# Altium schematic symbol library V2_wearable.SCHLIB: 77 symbols
Pins are listed as number, name and electrical type; pins without a type are passive.

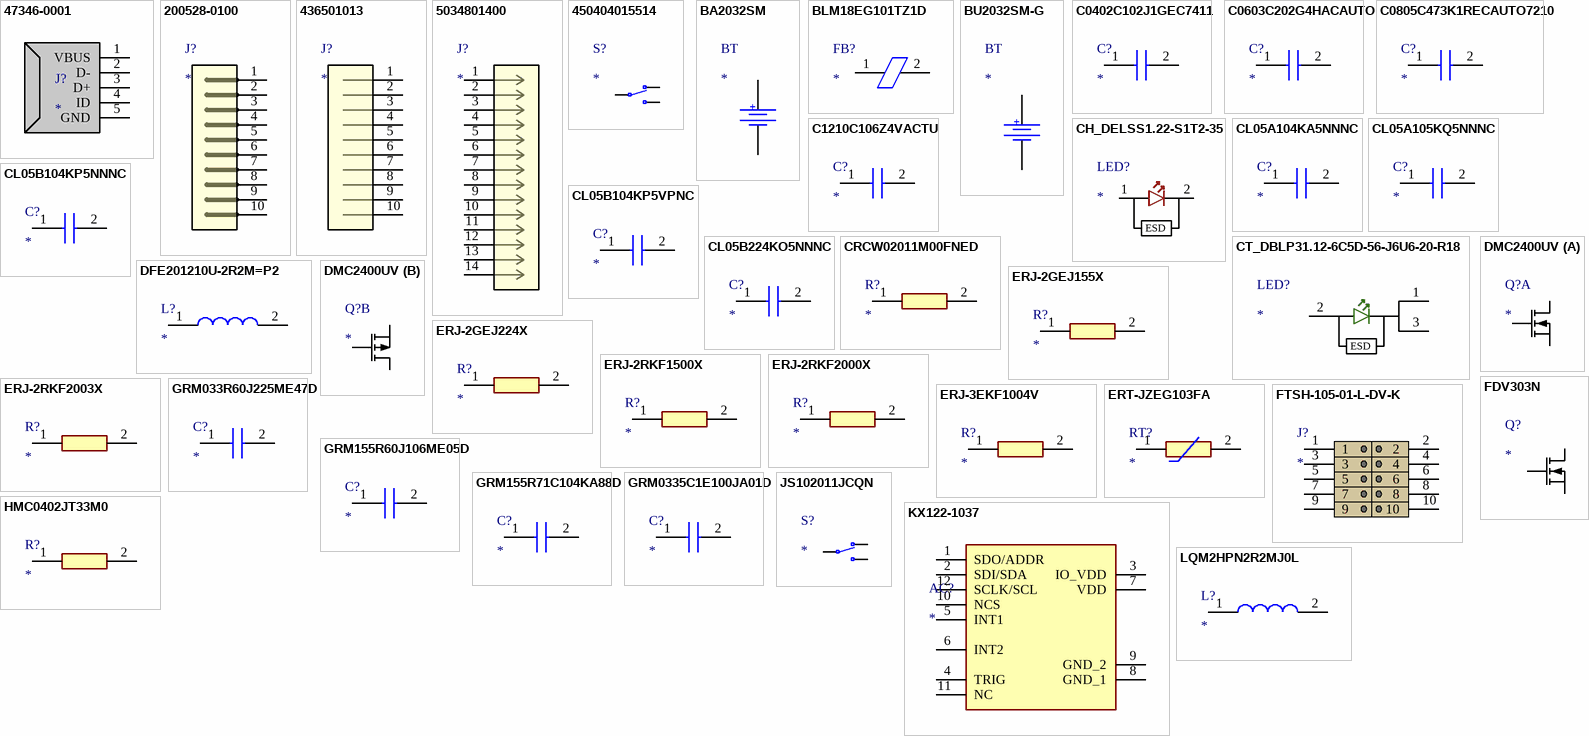
[diagram p0: symbols 47346-0001 to LQM2HPN2R2MJ0L]

## 47346-0001
designator J?
Connector; Manufacturer_Name: Molex; Manufacturer_Part_Number: 47346-0001; Datasheet Link: http://www.molex.com/pdm_docs/sd/473460001_sd.pdf; Mouser Part Number: 538-47346-0001; Mouser Price/Stock: https://www.mouser.co.uk/ProductDetail/Molex/47346-0001?qs=c2CV6XM0DweJBWaSeyWeCw%3D%3D
footprint 47346-0001
pins: 1 VBUS, 2 D-, 3 D+, 4 ID, 5 GND

## 200528-0100
designator J?
Connector; Manufacturer_Name: Molex; Manufacturer_Part_Number: 200528-0100; Datasheet Link: https://www.molex.com/pdm_docs/sd/2005280100_sd.pdf; Height: 2.1mm; Mouser Part Number: 538-200528-0100; Mouser Price/Stock: https://www.mouser.co.uk/ProductDetail/Molex/200528-0100?qs=0lSvoLzn4L%2F78iVrqdBtRg%3D%3D
footprint 2005280100
pins: 1, 2, 3, 4, 5, 6, 7, 8, 9, 10

## 436501013
designator J?
Connector; Manufacturer_Name: Molex; Manufacturer_Part_Number: 436501013; Datasheet Link: https://www.molex.com/pdm_docs/sd/436500212_sd.pdf; Height: 5.57mm
footprint 4365010YY_121314
pins: 1, 2, 3, 4, 5, 6, 7, 8, 9, 10

## 5034801400
designator J?
No Description Available; Mfr_Name: Molex Connector Corporation; RefDes: RefDes; Type: Type
footprint CON_5034801400_MOL
pins: 1, 2, 3, 4, 5, 6, 7, 8, 9, 10, 11, 12, 13, 14

## 450404015514
designator S?
Switch; Manufacturer_Name: Wurth Elektronik; Manufacturer_Part_Number: 450404015514; Datasheet Link: https://katalog.we-online.de/em/datasheet/450404015514.pdf; Height: 1.4mm; Mouser Part Number: 710-450404015514; Mouser Price/Stock: https://www.mouser.co.uk/ProductDetail/Wurth-Elektronik/450404015514?qs=sPbYRqrBIVk21%2FxsES2IZA%3D%3D
footprint 450404015514
pins: 1 N.O-1, 2 COM-1, 3 N.C-1

## BA2032SM
designator BT
BATTERY HOLDER COIN 20MM SMD; MP: BA2032SM; MF: MPD; SnapEDA_Link: https://www.snapeda.com/parts/BA2032SM/Memory%20Protection%20Devices/view-part/4219674/?ref=snap; Price: None; Package: None; Value: *; Availability: Unavailable
footprint BAT_BA2032SM
pins: NEG, POS
text: +

## BLM18EG101TZ1D
designator FB?
Ferrite Bead; Manufacturer_Name: Murata Electronics; Manufacturer_Part_Number: BLM18EG101TZ1D; Datasheet Link: http://www.murata.com/~/media/webrenewal/support/library/catalog/products/emc/emifil/c31e.ashx?la=en-gb; Height: 0.75mm; Mouser Part Number: 81-BLM18EG101TZ1D; Mouser Price/Stock: https://www.mouser.co.uk/ProductDetail/Murata-Electronics/BLM18EG101TZ1D?qs=lEfY3O89Aql3C2AEBXMxiA%3D%3D
footprint BLM18EG101TH1D
pins: 1, 2

## BU2032SM-G
designator BT
BATTERY HOLDER COIN 20MM SMD; MP: BU2032SM-G; MF: MPD; Package: None; Availability: Unavailable; Price: None; SnapEDA_Link: https://www.snapeda.com/parts/BU2032SM-G/Memory%20Protection%20Devices/view-part/4219599/?ref=snap; Value: *
footprint BAT_BU2032SM-G
pins: NEG, POS
text: +

## C0402C102J1GEC7411
designator C?
Capacitor; Manufacturer_Name: KEMET; Manufacturer_Part_Number: C0402C102J1GEC7411; Datasheet Link: https://content.kemet.com/datasheets/KEM_C1091_C0G_ESD.pdf; Height: 0.55mm; Mouser Part Number: 80-C0402C102J1GECLR; Mouser Price/Stock: https://www.mouser.co.uk/ProductDetail/KEMET/C0402C102J1GEC7411?qs=55YtniHzbhDbMp4X17Pi5A%3D%3D
footprint C0402
pins: 1, 2

## C0603C202G4HACAUTO
designator C?
Capacitor; Manufacturer_Name: KEMET; Manufacturer_Part_Number: C0603C202G4HACAUTO; Datasheet Link: https://content.kemet.com/datasheets/KEM_C1007_X8R_ULTRA_150C_SMD.pdf; Height: 0.87mm
footprint C0603
pins: 1, 2

## C0805C473K1RECAUTO7210
designator C?
Capacitor; Manufacturer_Name: KEMET; Manufacturer_Part_Number: C0805C473K1RECAUTO7210; Datasheet Link: https://connect.kemet.com:7667/gateway/IntelliData-ComponentDocumentation/1.0/download/specsheet/C0805C473K1RECAUTO7210; Height: 1.4mm; Mouser Part Number: 80-C0805C473K1REAULR; Mouser Price/Stock: https://www.mouser.com/Search/Refine.aspx?Keyword=80-C0805C473K1REAULR
footprint CAPC2012X140N
pins: 1, 2

## C1210C106Z4VACTU
designator C?
Capacitor; Manufacturer_Name: KEMET; Manufacturer_Part_Number: C1210C106Z4VACTU; Datasheet Link: https://content.kemet.com/datasheets/KEM_C1005_Y5V_SMD.pdf; Mouser Part Number: 80-C1210C106Z4V; Mouser Price/Stock: https://www.mouser.co.uk/ProductDetail/KEMET/C1210C106Z4VACTU?qs=mv3KgORg%2FP46M9Lyxvcz2A%3D%3D
footprint C1210
pins: 1, 2

## CH_DELSS1.22-S1T2-35
designator LED?
LED; Manufacturer_Name: ams OSRAM; Manufacturer_Part_Number: CH DELSS1.22-S1T2-35; Datasheet Link: https://dammedia.osram.info/media/resource/hires/osram-dam-5970299/CH DELSS1.22_EN.pdf; Height: 0.6mm; Mouser Part Number: 720-CHDELSS122A1192; Mouser Price/Stock: https://www.mouser.co.uk/ProductDetail/OSRAM-Opto-Semiconductors/CH-DELSS122-S1T2-35?qs=%252BEew9%252B0nqrCNoQzrwoCJpA%3D%3D; Arrow Part Number: CH DELSS1.22-S1T2-35; Arrow Price/Stock: https://www.arrow.com/en/products/ch-delss1.22-s1t2-35/osram-opto-semiconductors
footprint CHDELSS122S1T235
pins: 1 A, 1 C, 2 K, 2 A
text: ESD

## CL05A104KA5NNNC
designator C?
Capacitor; Manufacturer_Name: SAMSUNG; Manufacturer_Part_Number: CL05A104KA5NNNC; Datasheet Link: https://datasheet.datasheetarchive.com/originals/distributors/Datasheets-DGA10/2409293.pdf; Height: 0.55mm; Mouser Part Number: 187-CL05A104KA5NNNC; Mouser Price/Stock: https://www.mouser.co.uk/ProductDetail/Samsung-Electro-Mechanics/CL05A104KA5NNNC?qs=X6jEic%2FHinDlkqz9npJeOg%3D%3D; Arrow Part Number: CL05A104KA5NNNC; Arrow Price/Stock: https://www.arrow.com/en/products/cl05a104ka5nnnc/samsung-electro-mechanics?region=europe
footprint CAPC1005X55N
pins: 1, 2

## CL05A105KQ5NNNC
designator C?
Capacitor; Manufacturer_Name: SAMSUNG; Manufacturer_Part_Number: CL05A105KQ5NNNC; Datasheet Link: https://altium.componentsearchengine.com/Datasheets/2/CL05A105KQ5NNNC.pdf; Height: 0.55mm; Mouser Part Number: 187-CL05A105KQ5NNNC; Mouser Price/Stock: https://www.mouser.co.uk/ProductDetail/Samsung-Electro-Mechanics/CL05A105KQ5NNNC?qs=hqM3L16%252BxlcZ9I8tt8QWVg%3D%3D; Arrow Part Number: CL05A105KQ5NNNC; Arrow Price/Stock: https://www.arrow.com/en/products/cl05a105kq5nnnc/samsung-electro-mechanics?region=europe
footprint CAPC1005X55N
pins: 1, 2

## CL05B104KP5NNNC
designator C?
Capacitor; Manufacturer_Name: SAMSUNG; Manufacturer_Part_Number: CL05B104KP5NNNC; Datasheet Link: http://product.samsungsem.com/mlcc/CL05B104KP5NNN.do; Height: 0.55mm; Mouser Part Number: 187-CL05B104KP5NNNC; Mouser Price/Stock: https://www.mouser.co.uk/ProductDetail/Samsung-Electro-Mechanics/CL05B104KP5NNNC?qs=349EhDEZ59qDkVTTBSSSxw%3D%3D; Arrow Part Number: CL05B104KP5NNNC; Arrow Price/Stock: https://www.arrow.com/en/products/cl05b104kp5nnnc/samsung-electro-mechanics?region=nac
footprint CAPC1005X55N
pins: 1, 2

## CL05B104KP5VPNC
designator C?
Capacitor; Manufacturer_Name: SAMSUNG; Manufacturer_Part_Number: CL05B104KP5VPNC; Datasheet Link: https://product.samsungsem.com/mlcc/CL05B104KP5VPN.do; Height: 0.55mm; Mouser Part Number: 187-CL05B104KP5VPNC; Mouser Price/Stock: https://www.mouser.co.uk/ProductDetail/Samsung-Electro-Mechanics/CL05B104KP5VPNC?qs=gqBM4hNBiUXTv%252BkFO9q2pQ%3D%3D
footprint CAPC1005X55N
pins: 1, 2

## CL05B224KO5NNNC
designator C?
Capacitor; Manufacturer_Name: SAMSUNG; Manufacturer_Part_Number: CL05B224KO5NNNC; Datasheet Link: https://media.digikey.com/pdf/Data%20Sheets/Samsung%20PDFs/CL05B224KO5NNNC_Spec.pdf; Height: 0.55mm; Mouser Part Number: 187-CL05B224KO5NNNC; Mouser Price/Stock: https://www.mouser.co.uk/ProductDetail/Samsung-Electro-Mechanics/CL05B224KO5NNNC?qs=X6jEic%2FHinCN6V6mK7LtLg%3D%3D; Arrow Part Number: CL05B224KO5NNNC; Arrow Price/Stock: https://www.arrow.com/en/products/cl05b224ko5nnnc/samsung-electro-mechanics
footprint CAPC1005X55N
pins: 1, 2

## CRCW02011M00FNED
designator R?
Resistor; Manufacturer_Name: Vishay; Manufacturer_Part_Number: CRCW02011M00FNED; Datasheet Link: http://www.vishay.com/docs/20035/dcrcwe3.pdf; Height: 0.28mm; Mouser Part Number: 71-CRCW02011M00FNED; Mouser Price/Stock: https://www.mouser.com/Search/Refine.aspx?Keyword=71-CRCW02011M00FNED; Arrow Part Number: CRCW02011M00FNED; Arrow Price/Stock: https://www.arrow.com/en/products/crcw02011m00fned/vishay
footprint RESC0603X28N
pins: 1, 2

## CT_DBLP31.12-6C5D-56-J6U6-20-R18
designator LED?
LED; Manufacturer_Name: ams OSRAM; Manufacturer_Part_Number: CT DBLP31.12-6C5D-56-J6U6-20-R18; Datasheet Link: https://www.mouser.com/catalog/specsheets/Osram-03-25-2019-CT%20DBLP31.12_EN.pdf; Mouser Part Number: 720-CTDBLP31A6091; Mouser Price/Stock: https://www.mouser.co.uk/ProductDetail/OSRAM-Opto-Semiconductors/CT-DBLP3112-6C5D-56-J6U6-20-R18?qs=vLWxofP3U2xgbqKYEOstuw%3D%3D
footprint CTDBLP31126C5D56J6U620R18
pins: 1 K_1, 1 C, 2 A, 2 A, 3 K_2
text: ESD

## DFE201210U-2R2M=P2
designator L?
Inductor; Manufacturer_Name: Murata Electronics; Manufacturer_Part_Number: DFE201210U-2R2M=P2; Datasheet Link: https://psearch.en.murata.com/inductor/product/DFE201210U-2R2M%23.html; Height: 1mm; Mouser Part Number: 81-DFE201210U-2R2MP2; Mouser Price/Stock: https://www.mouser.co.uk/ProductDetail/Murata-Electronics/DFE201210U-2R2M%3dP2?qs=AQlKX63v8Rt%252B2GxwUyA5Fw%3D%3D; Arrow Part Number: DFE201210U-2R2M=P2; Arrow Price/Stock: https://www.arrow.com/en/products/dfe201210u-2r2mp2/murata-manufacturing?region=nac
footprint DFE201210S1R0MP2
pins: 1, 2

## DMC2400UV
designator Q?
Transistor; Manufacturer_Name: Diodes Incorporated; Manufacturer_Part_Number: DMC2400UV; Datasheet Link: https://www.diodes.com/assets/Datasheets/DMC2400UV.pdf; Height: 0.6mm; Mouser Part Number: N/A; Mouser Price/Stock: https://www.mouser.co.uk/ProductDetail/Diodes-Incorporated/DMC2400UV?qs=Wj%2FVkw3K%252BMA7RIsKQCzONw%3D%3D
footprint SOTFL50P162X60-6N
part A pins: 1 S1, 2 G1, 6 D1
part B pins: 3 D2, 4 S2, 5 G2

## ERJ-2GEJ155X
designator R?
Resistor; Manufacturer_Name: Panasonic; Manufacturer_Part_Number: ERJ-2GEJ155X; Datasheet Link: https://datasheet.datasheetarchive.com/originals/distributors/DKDS40/DSANUWW0010593.pdf; Height: 0.4mm; Mouser Part Number: 667-ERJ-2GEJ155X; Mouser Price/Stock: https://www.mouser.co.uk/ProductDetail/Panasonic/ERJ-2GEJ155X?qs=MVjVSMjNRMoBrgcCxtyHNA%3D%3D
footprint ERJ2RKD1004X
pins: 1, 2

## ERJ-2GEJ224X
designator R?
Resistor; Manufacturer_Name: Panasonic; Manufacturer_Part_Number: ERJ-2GEJ224X; Datasheet Link: https://datasheet.datasheetarchive.com/originals/distributors/DKDS40/DSANUWW0010623.pdf; Height: 0.4mm; Mouser Part Number: 667-ERJ-2GEJ224X; Mouser Price/Stock: https://www.mouser.co.uk/ProductDetail/Panasonic/ERJ-2GEJ224X?qs=H7k1u0Mp9JQ0o1uy9bJkFg%3D%3D; Arrow Part Number: ERJ-2GEJ224X; Arrow Price/Stock: https://www.arrow.com/en/products/erj2gej224x/panasonic?region=nac
footprint ERJ2RKD1004X
pins: 1, 2

## ERJ-2RKF1500X
designator R?
Resistor; Manufacturer_Name: Panasonic; Manufacturer_Part_Number: ERJ-2RKF1500X; Datasheet Link: https://industrial.panasonic.com/cdbs/www-data/pdf/RDA0000/AOA0000C86.pdf; Height: 0.4mm; Mouser Part Number: 667-ERJ-2RKF1500X; Mouser Price/Stock: https://www.mouser.co.uk/ProductDetail/Panasonic/ERJ-2RKF1500X?qs=MVjVSMjNRMocymBqQ7AAtQ%3D%3D; Arrow Part Number: ERJ-2RKF1500X; Arrow Price/Stock: https://www.arrow.com/en/products/erj-2rkf1500x/panasonic?region=nac
footprint ERJ2RKD1004X
pins: 1, 2

## ERJ-2RKF2000X
designator R?
Resistor; Manufacturer_Name: Panasonic; Manufacturer_Part_Number: ERJ-2RKF2000X; Datasheet Link: https://industrial.panasonic.com/cdbs/www-data/pdf/RDA0000/AOA0000C86.pdf; Height: 0.4mm; Mouser Part Number: 667-ERJ-2RKF2000X; Mouser Price/Stock: https://www.mouser.co.uk/ProductDetail/Panasonic/ERJ-2RKF2000X?qs=P9MxuNjgFLMhlpyylwMTwg%3D%3D; Arrow Part Number: ERJ-2RKF2000X; Arrow Price/Stock: https://www.arrow.com/en/products/erj-2rkf2000x/panasonic?region=nac
footprint ERJ2RKD1004X
pins: 1, 2

## ERJ-2RKF2003X
designator R?
Resistor; Manufacturer_Name: Panasonic; Manufacturer_Part_Number: ERJ-2RKF2003X; Datasheet Link: https://industrial.panasonic.com/cdbs/www-data/pdf/RDA0000/AOA0000C86.pdf; Height: 0.4mm; Mouser Part Number: 667-ERJ-2RKF2003X; Mouser Price/Stock: https://www.mouser.co.uk/ProductDetail/Panasonic/ERJ-2RKF2003X?qs=H7k1u0Mp9JQs7qWHNZeKxQ%3D%3D; Arrow Part Number: ERJ-2RKF2003X; Arrow Price/Stock: https://www.arrow.com/en/products/erj2rkf2003x/panasonic?region=europe
footprint ERJ2RKD1004X
pins: 1, 2

## ERJ-3EKF1004V
designator R?
Resistor; Manufacturer_Name: Panasonic; Manufacturer_Part_Number: ERJ-3EKF1004V; Datasheet Link: http://industrial.panasonic.com/cdbs/www-data/pdf/RDA0000/AOA0000C86.pdf; Height: 0.55mm; Mouser Part Number: 667-ERJ-3EKF1004V; Mouser Price/Stock: https://www.mouser.co.uk/ProductDetail/Panasonic/ERJ-3EKF1004V?qs=6%252BUraArZVSCwybhfQn7iYg%3D%3D; Arrow Part Number: ERJ-3EKF1004V; Arrow Price/Stock: https://www.arrow.com/en/products/erj-3ekf1004v/panasonic?region=nac
footprint RESC1608X55N
pins: 1, 2

## ERT-JZEG103FA
designator RT?
Thermistor; Manufacturer_Name: Panasonic; Manufacturer_Part_Number: ERT-JZEG103FA; Datasheet Link: https://industrial.panasonic.com/cdbs/www-data/pdf/AUA0000/AUA0000C8.pdf; Height: 0.33mm; Mouser Part Number: 667-ERT-JZEG103FA; Mouser Price/Stock: https://www.mouser.co.uk/ProductDetail/Panasonic/ERT-JZEG103FA?qs=8rMlxy%252BA7jnazXT5AW8efg%3D%3D; Arrow Part Number: ERT-JZEG103FA; Arrow Price/Stock: https://www.arrow.com/en/products/ert-jzeg103fa/panasonic?region=nac
footprint ERTJZEG103FA
pins: 1, 2

## FDV303N
designator Q?
MOSFET (N-Channel); Manufacturer_Name: onsemi; Manufacturer_Part_Number: FDV303N; Datasheet Link: https://www.onsemi.com/pub/Collateral/FDV303N-D.PDF; Height: 1.11mm; Mouser Part Number: 512-FDV303N; Mouser Price/Stock: https://www.mouser.co.uk/ProductDetail/onsemi-Fairchild/FDV303N?qs=FOlmdCx%252BAA1IyXspysHTkA%3D%3D; Arrow Part Number: FDV303N; Arrow Price/Stock: https://www.arrow.com/en/products/fdv303n/on-semiconductor?region=europe
footprint SOT96P237X111-3N
pins: 1 G, 2 S, 3 D

## FTSH-105-01-L-DV-K
designator J?
Connector; Manufacturer_Name: SAMTEC; Manufacturer_Part_Number: FTSH-105-01-L-DV-K; Datasheet Link: https://www.arrow.com/en/products/ftsh-105-01-l-dv-k/samtec; Height: 6.1mm; Mouser Part Number: 200-FTSH10501LDVK; Mouser Price/Stock: https://www.mouser.co.uk/ProductDetail/Samtec/FTSH-105-01-L-DV-K?qs=%252B5JSS813miOqo3Vy%252BvhCFg%3D%3D; Arrow Part Number: FTSH-105-01-L-DV-K; Arrow Price/Stock: https://www.arrow.com/en/products/ftsh-105-01-l-dv-k/samtec?region=europe
footprint FTSH10501LDVK
pins: 1, 2, 3, 4, 5, 6, 7, 8, 9, 10

## GRM033R60J225ME47D
designator C?
Capacitor; Manufacturer_Name: Murata Electronics; Manufacturer_Part_Number: GRM033R60J225ME47D; Datasheet Link: http://www.murata.com/~/media/webrenewal/support/library/catalog/products/capacitor/mlcc/c02e.pdf; Height: 0.33mm; Mouser Part Number: 81-GRM033R60J225ME7D; Mouser Price/Stock: https://www.mouser.co.uk/ProductDetail/Murata-Electronics/GRM033R60J225ME47D?qs=kRS0rR9cfpW%252Btpdb3iqxoA%3D%3D; Arrow Part Number: GRM033R60J225ME47D; Arrow Price/Stock: https://www.arrow.com/en/products/grm033r60j225me47d/murata-manufacturing
footprint CAPC0603X33N
pins: 1, 2

## GRM155R60J106ME05D
designator C?
Capacitor; Manufacturer_Name: Murata Electronics; Manufacturer_Part_Number: GRM155R60J106ME05D; Datasheet Link: http://www.murata.com/~/media/webrenewal/support/library/catalog/products/capacitor/mlcc/c02e.pdf; Height: 0.55mm; Mouser Part Number: 81-GRM155R60J106M05D; Mouser Price/Stock: https://www.mouser.co.uk/ProductDetail/Murata-Electronics/GRM155R60J106ME05D?qs=d0WKAl%252BL4KYEzZPQ8Lkwdw%3D%3D; Arrow Part Number: GRM155R60J106ME05D; Arrow Price/Stock: https://www.arrow.com/en/products/grm155r60j106me05d/murata-manufacturing?region=nac
footprint CAPC1005X55N
pins: 1, 2

## GRM155R71C104KA88D
designator C?
Capacitor; Manufacturer_Name: Murata Electronics; Manufacturer_Part_Number: GRM155R71C104KA88D; Datasheet Link: http://www.murata.com/~/media/webrenewal/support/library/catalog/products/capacitor/mlcc/c02e.pdf; Height: 0.55mm; Mouser Part Number: N/A; Arrow Part Number: GRM155R71C104KA88D; Arrow Price/Stock: https://www.arrow.com/en/products/grm155r71c104ka88d/murata-manufacturing?region=nac
footprint CAPC1005X55N
pins: 1, 2

## GRM0335C1E100JA01D
designator C?
Capacitor; Manufacturer_Name: Murata Electronics; Manufacturer_Part_Number: GRM0335C1E100JA01D; Datasheet Link: http://www.murata.com/~/media/webrenewal/support/library/catalog/products/capacitor/mlcc/c02e.pdf; Height: 0.33mm; Mouser Part Number: 81-GRM0335C1E100JA1D; Mouser Price/Stock: https://www.mouser.co.uk/ProductDetail/Murata-Electronics/GRM0335C1E100JA01D?qs=3ZwS9AhGA%2F61ULaWXbLsuw%3D%3D; Arrow Part Number: GRM0335C1E100JA01D; Arrow Price/Stock: https://www.arrow.com/en/products/grm0335c1e100ja01d/murata-manufacturing?region=nac
footprint CAPC0603X33N
pins: 1, 2

## HMC0402JT33M0
designator R?
Resistor; Manufacturer_Name: Stackpole Electronics; Manufacturer_Part_Number: HMC0402JT33M0; Datasheet Link: https://cs.seielect.com/catalog/SEI-HMC.pdf; Height: 0.4mm; Arrow Part Number: HMC0402JT33M0; Arrow Price/Stock: https://www.arrow.com/en/products/hmc0402jt33m0/stackpole-electronics
footprint RESC1005X40N
pins: 1, 2

## JS102011JCQN
designator S?
Switch; Manufacturer_Name: C & K COMPONENTS; Manufacturer_Part_Number: JS102011JCQN; Datasheet Link: https://www.ckswitches.com/media/1422/js.pdf; Height: 3mm; Mouser Part Number: 611-JS102011JCQN; Mouser Price/Stock: https://www.mouser.co.uk/ProductDetail/CK/JS102011JCQN?qs=74EMXstkWMWQs9mNwlyl0g%3D%3D; Arrow Part Number: JS102011JCQN; Arrow Price/Stock: https://www.arrow.com/en/products/js102011jcqn/ck?region=nac
footprint JS102011JCQN
pins: 1 N.O-1, 2 COM-1, 3 N.C-1

## KX122-1037
designator AC?
Accelerometer; Manufacturer_Name: Kionix; Manufacturer_Part_Number: KX122-1037; Datasheet Link: https://kionixfs.azureedge.net/en/document/TN008-PCB-Design-Guidelines-for-2x2-LGA-Sensors.pdf; Height: 1mm; Mouser Part Number: 912-KX122-1037; Mouser Price/Stock: https://www.mouser.co.uk/ProductDetail/Kionix/KX122-1037?qs=6OIXIgk3fwdhApAbA9esZQ%3D%3D
footprint KX1221037
pins: 1 SDO/ADDR, 2 SDI/SDA, 3 IO_VDD, 4 TRIG, 5 INT1, 6 INT2, 7 VDD, 8 GND_1, 9 GND_2, 10 NCS, 11 NC, 12 SCLK/SCL

## LQM2HPN2R2MJ0L
designator L?
Inductor; Manufacturer_Name: Murata Electronics; Manufacturer_Part_Number: LQM2HPN2R2MJ0L; Datasheet Link: https://psearch.en.murata.com/inductor/product/LQM2HPN2R2MJ0%23.html; Height: 1.2mm; Mouser Part Number: 81-LQM2HPN2R2MJ0L; Mouser Price/Stock: https://www.mouser.co.uk/ProductDetail/Murata-Electronics/LQM2HPN2R2MJ0L?qs=%2F%252BYoplLUB5gah%2Fy6io9rJg%3D%3D; Arrow Part Number: LQM2HPN2R2MJ0L; Arrow Price/Stock: https://www.arrow.com/en/products/lqm2hpn2r2mj0l/murata-manufacturing?region=nac
footprint LQM2HPZ3R3MJ0B
pins: 1, 2

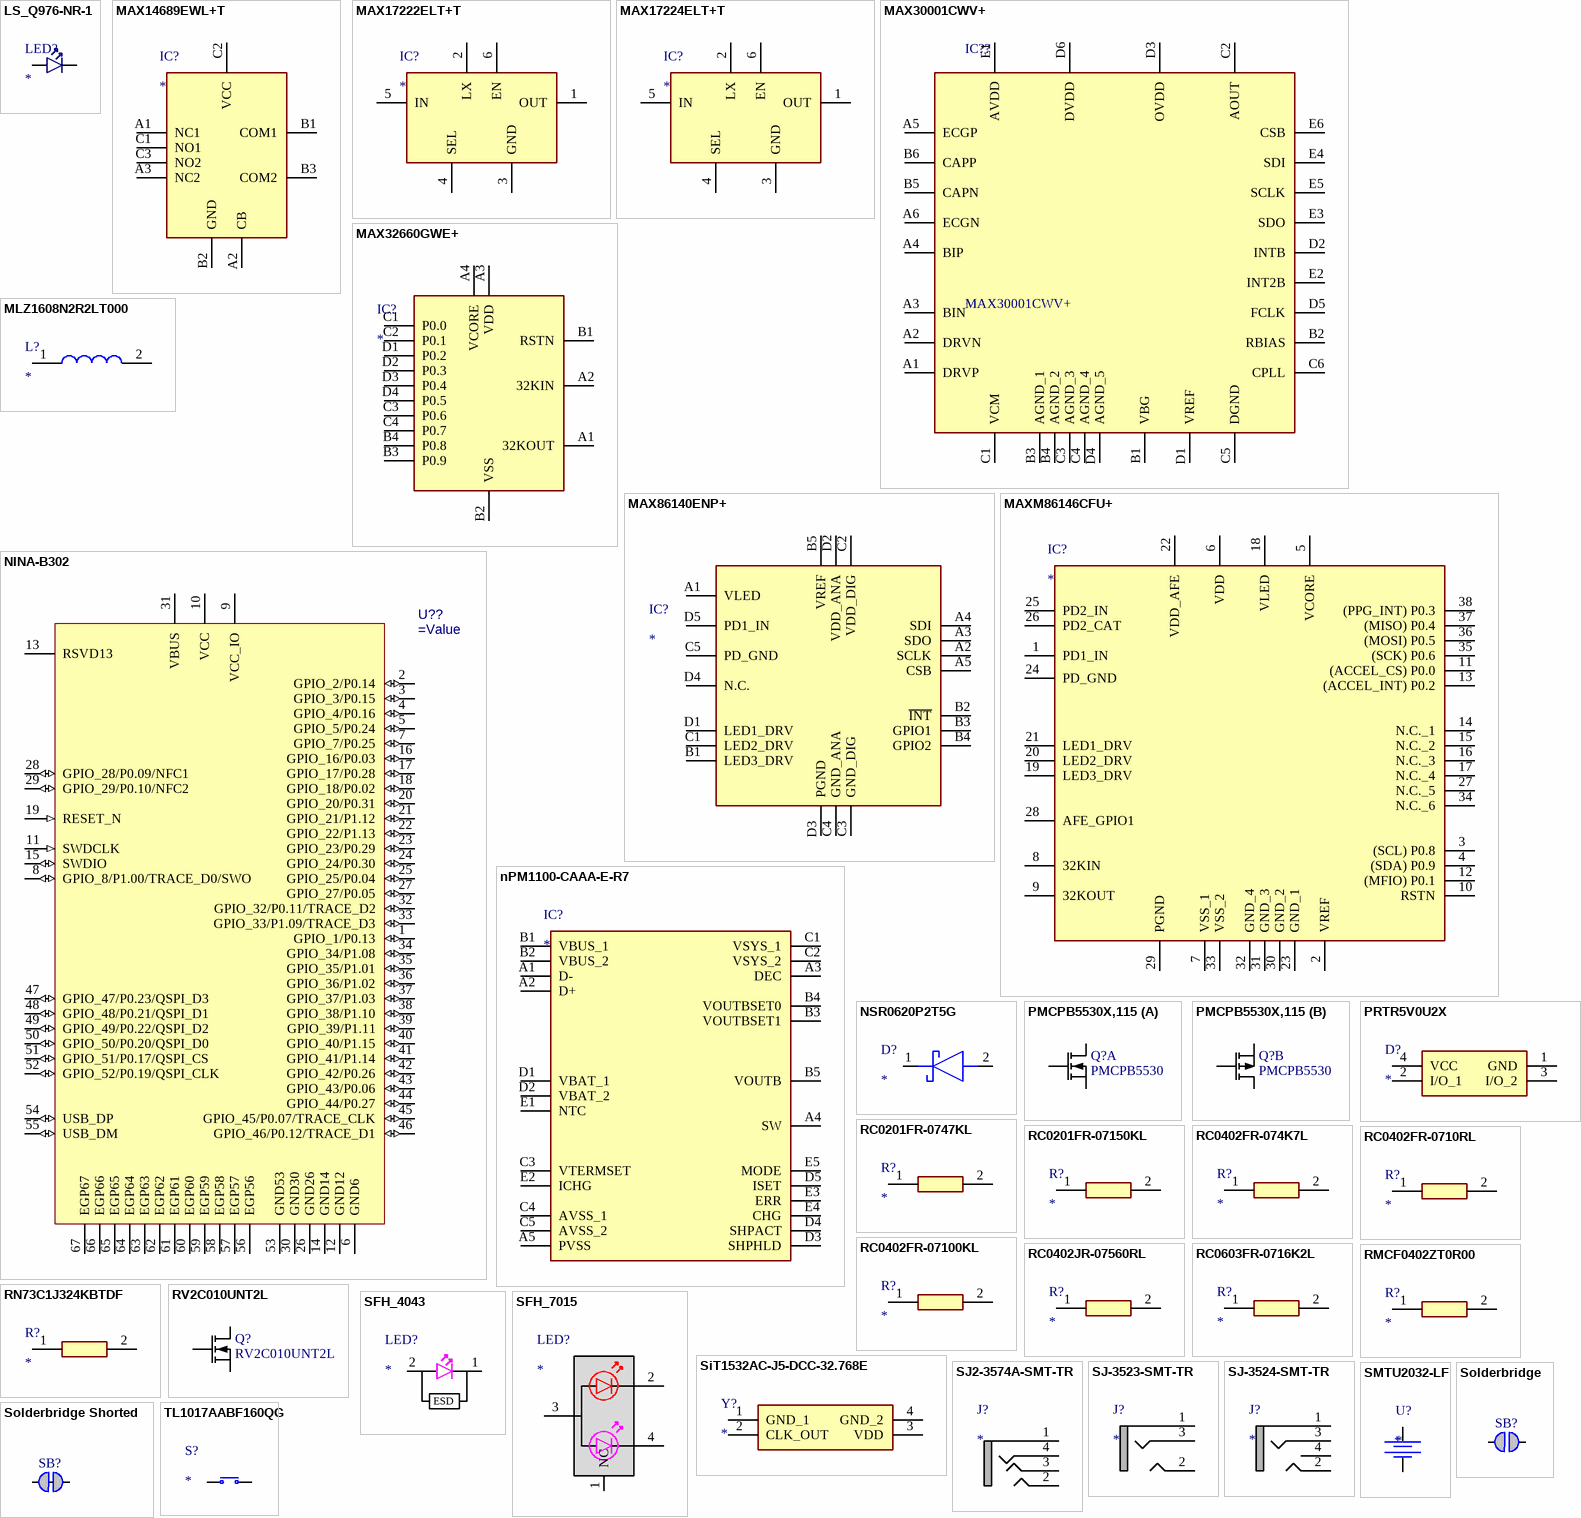
[diagram p1: symbols LS_Q976-NR-1 to TL1017AABF160QG]

## LS_Q976-NR-1
designator LED?
LED; Manufacturer_Name: ams OSRAM; Manufacturer_Part_Number: LS Q976-NR-1; Datasheet Link: https://datasheet.datasheetarchive.com/originals/distributors/DKDS41/DSANUWW0036602.pdf; Height: 0.8mm; Mouser Part Number: 720-LSQ976-NR-1; Mouser Price/Stock: https://www.mouser.co.uk/ProductDetail/ams-OSRAM/LS-Q976-NR-1?qs=K5ta8V%252BWhtbwdFgXKu1Oiw%3D%3D; Arrow Part Number: LS Q976-NR-1; Arrow Price/Stock: https://www.arrow.com/en/products/lsq976-nr-1/osram-opto-semiconductors?region=europe
footprint LEDC1608X80N
pins: 1 C, 2 A

## MAX14689EWL+T
designator IC?
Integrated Circuit; Manufacturer_Name: Analog Devices; Manufacturer_Part_Number: MAX14689EWL+T; Datasheet Link: https://datasheets.maximintegrated.com/en/ds/MAX14689.pdf; Height: 0.69mm; Mouser Part Number: 700-MAX14689EWL+T; Mouser Price/Stock: https://www.mouser.co.uk/ProductDetail/Maxim-Integrated/MAX14689EWL%2bT?qs=jKHy77vQLH2WsIix%2FYfctQ%3D%3D
footprint BGA9C40P3X3_124X124X69
pins: A1 NC1, A2 CB, A3 NC2, B1 COM1, B2 GND, B3 COM2, C1 NO1, C2 VCC, C3 NO2

## MAX17222ELT+T
designator IC?
Integrated Circuit; Manufacturer_Name: Analog Devices; Manufacturer_Part_Number: MAX17222ELT+T; Datasheet Link: https://www.analog.com/MAX17222/datasheet; Height: 0.8mm; Mouser Part Number: 700-MAX17222ELT+T; Mouser Price/Stock: https://www.mouser.co.uk/ProductDetail/Maxim-Integrated/MAX17222ELT%2bT?qs=u4fy%2FsgLU9PcvsZj65z6yw%3D%3D; Arrow Part Number: MAX17222ELT+T; Arrow Price/Stock: https://www.arrow.com/en/products/max17222eltt/maxim-integrated?region=nac
footprint MAX17222ELTT
pins: 1 OUT, 2 LX, 3 GND, 4 SEL, 5 IN, 6 EN

## MAX17224ELT+T
designator IC?
Integrated Circuit; Manufacturer_Name: Analog Devices; Manufacturer_Part_Number: MAX17224ELT+T; Datasheet Link: https://www.analog.com/MAX17224/datasheet; Height: 0.8mm; Mouser Part Number: 700-MAX17224ELT+T; Mouser Price/Stock: https://www.mouser.co.uk/ProductDetail/Maxim-Integrated/MAX17224ELT%2bT?qs=BZBei1rCqCCCW5323eMGwQ%3D%3D; Arrow Part Number: MAX17224ELT+T; Arrow Price/Stock: https://www.arrow.com/en/products/max17224eltt/maxim-integrated?region=nac
footprint MAX17224ELTT
pins: 1 OUT, 2 LX, 3 GND, 4 SEL, 5 IN, 6 EN

## MAX30001CWV+
designator IC??
Integrated Circuit; Manufacturer_Name: Analog Devices; Datasheet Link: https://datasheets.maximintegrated.com/en/ds/MAX30001.pdf; Height: 0.69mm; Manufacturer_Part_Number: MAX30001CWV+; Mouser Part Number: 700-MAX30001CWV+; Mouser Price/Stock: https://www.mouser.co.uk/ProductDetail/Analog-Devices-Maxim-Integrated/MAX30001CWV%2b?qs=gt1LBUVyoHlQ9wjGIPyD2Q%3D%3D
footprint BGA30C50P6X5_293X274X69
pins: A1 DRVP, A2 DRVN, A3 BIN, A4 BIP, A5 ECGP, A6 ECGN, B1 VBG, B2 RBIAS, B3 AGND_1, B4 AGND_2, B5 CAPN, B6 CAPP, C1 VCM, C2 AOUT, C3 AGND_3, C4 AGND_4, C5 DGND, C6 CPLL, D1 VREF, D2 INTB, D3 OVDD, D4 AGND_5, D5 FCLK, D6 DVDD, E1 AVDD, E2 INT2B, E3 SDO, E4 SDI, E5 SCLK, E6 CSB

## MAX32660GWE+
designator IC?
Integrated Circuit; Manufacturer_Name: Analog Devices; Manufacturer_Part_Number: MAX32660GWE+; Datasheet Link: https://www.analog.com/MAX32660/datasheet; Height: 0.69mm; Mouser Part Number: 700-MAX32660GWE+; Mouser Price/Stock: https://www.mouser.co.uk/ProductDetail/Maxim-Integrated/MAX32660GWE%2b?qs=r5DSvlrkXmLCB9dlGUXXVA%3D%3D
footprint BGA16C35P4X4_157X155X69
pins: A1 32KOUT, A2 32KIN, A3 VDD, A4 VCORE, B1 RSTN, B2 VSS, B3 P0.9, B4 P0.8, C1 P0.0, C2 P0.1, C3 P0.6, C4 P0.7, D1 P0.2, D2 P0.3, D3 P0.4, D4 P0.5

## MAX86140ENP+
designator IC?
Integrated Circuit; Manufacturer_Name: Analog Devices; Manufacturer_Part_Number: MAX86140ENP+; Datasheet Link: https://pdfserv.maximintegrated.com/en/ds/MAX86140-MAX86141.pdf; Height: 0.5mm; Mouser Part Number: 700-MAX86140ENP+; Mouser Price/Stock: https://www.mouser.co.uk/ProductDetail/Analog-Devices-Maxim-Integrated/MAX86140ENP%2b?qs=BZBei1rCqCCmjydrnkZsNw%3D%3D
footprint BGA20C40P5X4_205X185X50
pins: A1 VLED, A2 SCLK, A3 SDO, A4 SDI, A5 CSB, B1 LED3_DRV, B2 ~{INT}, B3 GPIO1, B4 GPIO2, B5 VREF, C1 LED2_DRV, C2 VDD_DIG, C3 GND_DIG, C4 GND_ANA, C5 PD_GND, D1 LED1_DRV, D2 VDD_ANA, D3 PGND, D4 N.C., D5 PD1_IN

## MAXM86146CFU+
designator IC?
Integrated Circuit; Manufacturer_Name: Analog Devices; Manufacturer_Part_Number: MAXM86146CFU+; Datasheet Link: https://datasheets.maximintegrated.com/en/ds/MAXM86146.pdf; Height: 0.975mm; Mouser Part Number: 700-MAXM86146CFU+; Mouser Price/Stock: https://www.mouser.co.uk/ProductDetail/Analog-Devices-Maxim-Integrated/MAXM86146CFU%2b?qs=7MVldsJ5UaxGg5O5mFC%252Bgg%3D%3D
footprint MAXM86146CFU
pins: 1 PD1_IN, 2 VREF, 3 (SCL) P0.8, 4 (SDA) P0.9, 5 VCORE, 6 VDD, 7 VSS_1, 8 32KIN, 9 32KOUT, 10 RSTN, 11 (ACCEL_CS) P0.0, 12 (MFIO) P0.1, 13 (ACCEL_INT) P0.2, 14 N.C._1, 15 N.C._2, 16 N.C._3, 17 N.C._4, 18 VLED, 19 LED3_DRV, 20 LED2_DRV, 21 LED1_DRV, 22 VDD_AFE, 23 GND_1, 24 PD_GND, 25 PD2_IN, 26 PD2_CAT, 27 N.C._5, 28 AFE_GPIO1, 29 PGND, 30 GND_2, 31 GND_3, 32 GND_4, 33 VSS_2, 34 N.C._6, 35 (SCK) P0.6, 36 (MOSI) P0.5, 37 (MISO) P0.4, 38 (PPG_INT) P0.3

## MLZ1608N2R2LT000
designator L?
Inductor; Manufacturer_Name: TDK; Manufacturer_Part_Number: MLZ1608N2R2LT000; Datasheet Link: https://product.tdk.com/system/files/dam/doc/product/inductor/inductor/smd/catalog/inductor_commercial_decoupling_mlz1608_en.pdf; Height: 0.95mm; Mouser Part Number: 810-MLZ1608N2R2LT000; Mouser Price/Stock: https://www.mouser.co.uk/ProductDetail/TDK/MLZ1608N2R2LT000?qs=%2FPzWLGNeQ%252BiJ52%2F8MHH%252Bdw%3D%3D; Arrow Part Number: MLZ1608N2R2LT000; Arrow Price/Stock: https://www.arrow.com/en/products/mlz1608n2r2lt000/tdk?region=nac
footprint INDC1608X95N
pins: 1, 2

## NINA-B302
designator U??
u-blox NINA-B302 Bluetooth 5 LE, 802.15.4 module; Part Description: Stand-alone Bluetooth low energy module; Manufacturer: u-blox
footprint NINA_LGA67R_1500X1000X338_PIFA (Stand-alone Bluetooth low energy module)
pins: 1 GPIO_1/P0.13 (io), 2 GPIO_2/P0.14 (io), 3 GPIO_3/P0.15 (io), 4 GPIO_4/P0.16 (io), 5 GPIO_5/P0.24 (io), 6 GND6 (power), 7 GPIO_7/P0.25 (io), 8 GPIO_8/P1.00/TRACE_D0/SWO (io), 9 VCC_IO (power), 10 VCC (power), 11 SWDCLK (in), 12 GND12 (power), 13 RSVD13, 14 GND14 (power), 15 SWDIO (io), 16 GPIO_16/P0.03 (io), 17 GPIO_17/P0.28 (io), 18 GPIO_18/P0.02 (io), 19 RESET_N (in), 20 GPIO_20/P0.31 (io), 21 GPIO_21/P1.12 (io), 22 GPIO_22/P1.13 (io), 23 GPIO_23/P0.29 (io), 24 GPIO_24/P0.30 (io), 25 GPIO_25/P0.04 (io), 26 GND26 (power), 27 GPIO_27/P0.05 (io), 28 GPIO_28/P0.09/NFC1 (io), 29 GPIO_29/P0.10/NFC2 (io), 30 GND30 (power), 31 VBUS (power), 32 GPIO_32/P0.11/TRACE_D2 (io), 33 GPIO_33/P1.09/TRACE_D3 (io), 34 GPIO_34/P1.08 (io), 35 GPIO_35/P1.01 (io), 36 GPIO_36/P1.02 (io), 37 GPIO_37/P1.03 (io), 38 GPIO_38/P1.10 (io), 39 GPIO_39/P1.11 (io), 40 GPIO_40/P1.15 (io), 41 GPIO_41/P1.14 (io), 42 GPIO_42/P0.26 (io), 43 GPIO_43/P0.06 (io), 44 GPIO_44/P0.27 (io), 45 GPIO_45/P0.07/TRACE_CLK (io), 46 GPIO_46/P0.12/TRACE_D1 (io), 47 GPIO_47/P0.23/QSPI_D3 (io), 48 GPIO_48/P0.21/QSPI_D1 (io), 49 GPIO_49/P0.22/QSPI_D2 (io), 50 GPIO_50/P0.20/QSPI_D0 (io), 51 GPIO_51/P0.17/QSPI_CS (io), 52 GPIO_52/P0.19/QSPI_CLK (io), 53 GND53 (power), 54 USB_DP (io), 55 USB_DM (io), 56 EGP56 (power), 57 EGP57 (power), 58 EGP58 (power), 59 EGP59 (power), 60 EGP60 (power), 61 EGP61 (power), 62 EGP62 (power), 63 EGP63 (power), 64 EGP64 (power), 65 EGP65 (power), 66 EGP66 (power), 67 EGP67 (power)

## nPM1100-CAAA-E-R7
designator IC?
Integrated Circuit; Manufacturer_Name: Nordic Semiconductor; Manufacturer_Part_Number: nPM1100-CAAA-E-R7; Datasheet Link: https://eu.mouser.com/datasheet/2/297/nPM1100_PS_v1_1-3074770.pdf; Height: 0.522mm; Mouser Part Number: 949-NPM1100-CAAA-R7; Mouser Price/Stock: https://www.mouser.co.uk/ProductDetail/Nordic-Semiconductor/nPM1100-CAAA-E-R7?qs=vvQtp7zwQdOU6PwQjneJOA%3D%3D; Arrow Part Number: NPM1100-CAAA-E-R7; Arrow Price/Stock: https://www.arrow.com/en/products/npm1100-caaa-e-r7/nordic-semiconductor?region=nac
footprint BGA25C40P5X5_208X208X52
pins: A1 D-, A2 D+, A3 DEC, A4 SW, A5 PVSS, B1 VBUS_1, B2 VBUS_2, B3 VOUTBSET1, B4 VOUTBSET0, B5 VOUTB, C1 VSYS_1, C2 VSYS_2, C3 VTERMSET, C4 AVSS_1, C5 AVSS_2, D1 VBAT_1, D2 VBAT_2, D3 SHPHLD, D4 SHPACT, D5 ISET, E1 NTC, E2 ICHG, E3 ERR, E4 CHG, E5 MODE

## NSR0620P2T5G
designator D?
Schottky Diode; Manufacturer_Name: onsemi; Manufacturer_Part_Number: NSR0620P2T5G; Datasheet Link: https://www.onsemi.com/pub/Collateral/NSR0620P2-D.PDF; Height: 0.4mm; Mouser Part Number: 863-NSR0620P2T5G; Mouser Price/Stock: https://www.mouser.co.uk/ProductDetail/onsemi/NSR0620P2T5G?qs=tauDy9ytPRuGG8VMIU8l1w%3D%3D; Arrow Part Number: NSR0620P2T5G; Arrow Price/Stock: https://www.arrow.com/en/products/nsr0620p2t5g/on-semiconductor?region=nac
footprint SODFL1006X40N
pins: 1 K, 2 A

## PMCPB5530X,115
designator Q?, comment PMCPB5530
Mosfet Array N and P-Channel 20V 4A (Ta), 3.4A (Ta) 490mW Surface Mount 6-HUSON-EP (2x2); Part Number: PMCPB5530X,115; Manufacturer: Nexperia; Part number IPS: 00000001918; Note: N.A.; Pad Count: 8; Manufacturer Part Number: PMCPB5530X,115; LatestRevisionDate: 2018-04-30; Pin Count: 8; Publisher: Nordic Semiconductor; Published: 2018-04-30; Value: PMCPB5530; Artikkelnr Noca: N.A.; Footprint Doc: 6-UDFN; ComponentLink1URL: https://assets.nexperia.com/documents/data-sheet/PMCPB5530X.pdf; ComponentLink1Description: Datasheet; ComponentLink2URL: https://www.digikey.com/product-detail/en/nexperia-usa-inc/PMCPB5530X115/1727-1327-1-ND/4386339; ComponentLink2Description: Supplier link; HelpURL: https://www.nexperia.com/products/mosfets/small-signal-mosfets/PMCPB5530X.html; Supplier 1: Digi-Key; Supplier Part Number 1: 1727-1327-1-ND; Supplier 2: Mouser; Supplier Part Number 2: 771-PMCPB5530X115; Author: rsk; Component Class: Semiconductors; PartId: 101300165; Part number Norautron: N.A.
footprint DFN65P200X200X80_HS-6N (DFN, 6-Leads, Body 2.00x2.00mm, Pitch 0.65mm, IPC Medium Density)
part A pins: 1 S1, 2 G1, 6 D1
part B pins: 3 D2, 4 S2, 5 G2

## PRTR5V0U2X
designator D?
Diode; Manufacturer_Name: Nexperia; Manufacturer_Part_Number: PRTR5V0U2X; Datasheet Link: https://assets.nexperia.com/documents/data-sheet/PRTR5V0U2X.pdf; Height: 1.1mm; Mouser Part Number: N/A; Mouser Price/Stock: https://www.mouser.co.uk/ProductDetail/Nexperia/PRTR5V0U2X?qs=vHuUswq2%252BsxqVTVM0kNyWw%3D%3D
footprint PRTR5V0U2X
pins: 1 GND, 2 I/O_1, 3 I/O_2, 4 VCC

## RC0201FR-0747KL
designator R?
Resistor; Manufacturer_Name: KEMET; Manufacturer_Part_Number: RC0201FR-0747KL; Datasheet Link: http://www.yageo.com/documents/recent/PYu-RC0201_51_RoHS_L_8.pdf; Height: 0.26mm; Mouser Part Number: 603-RC0201FR-0747KL; Mouser Price/Stock: https://www.mouser.com/Search/Refine.aspx?Keyword=603-RC0201FR-0747KL
footprint RESC0603X26N
pins: 1, 2

## RC0201FR-07150KL
designator R?
Resistor; Manufacturer_Name: YAGEO; Manufacturer_Part_Number: RC0201FR-07150KL; Datasheet Link: https://www.yageo.com/upload/media/product/productsearch/datasheet/rchip/PYu-RC_Group_51_RoHS_L_12.pdf; Height: 0.26mm; Mouser Part Number: 603-RC0201FR-07150KL; Mouser Price/Stock: https://www.mouser.co.uk/ProductDetail/YAGEO/RC0201FR-07150KL?qs=H0f9D%252BN4ztK2Y3P5AmxlBw%3D%3D; Arrow Part Number: RC0201FR-07150KL; Arrow Price/Stock: https://www.arrow.com/en/products/rc0201fr-07150kl/yageo?region=nac
footprint RESC0603X26N
pins: 1, 2

## RC0402FR-074K7L
designator R?
Resistor; Manufacturer_Name: KEMET; Manufacturer_Part_Number: RC0402FR-074K7L; Datasheet Link: http://www.yageo.com/documents/recent/PYu-RC0402_51_RoHS_L_6_r.pdf; Height: 0.4mm; Mouser Part Number: 603-RC0402FR-074K7L; Mouser Price/Stock: https://www.mouser.co.uk/ProductDetail/YAGEO/RC0402FR-074K7L?qs=V1yeUXFNrkn%2FmCXC8N8TTA%3D%3D; Arrow Part Number: RC0402FR-074K7L; Arrow Price/Stock: https://www.arrow.com/en/products/rc0402fr-074k7l/yageo
footprint RESC1005X40N
pins: 1, 2

## RC0402FR-0710RL
designator R?
Resistor; Manufacturer_Name: KEMET; Manufacturer_Part_Number: RC0402FR-0710RL; Datasheet Link: http://www.yageo.com/documents/recent/PYu-RC0402_51_RoHS_L_6_r.pdf; Height: 0.4mm; Mouser Part Number: 603-RC0402FR-0710RL; Mouser Price/Stock: https://www.mouser.co.uk/ProductDetail/YAGEO/RC0402FR-0710RL?qs=V1yeUXFNrkkzkWCUUWS9og%3D%3D
footprint RESC1005X40N
pins: 1, 2

## RC0402FR-07100KL
designator R?
Resistor; Manufacturer_Name: YAGEO; Manufacturer_Part_Number: RC0402FR-07100KL; Datasheet Link: https://componentsearchengine.com/Datasheets/2/RC0402FR-07100KL.pdf; Height: 0.4mm; Mouser Part Number: 603-RC0402FR-07100KL; Mouser Price/Stock: https://www.mouser.co.uk/ProductDetail/YAGEO/RC0402FR-07100KL?qs=mnq%2FyloZIXzTlUn7JAHSWg%3D%3D; Arrow Part Number: RC0402FR-07100KL; Arrow Price/Stock: https://www.arrow.com/en/products/rc0402fr-07100kl/yageo?region=europe
footprint RESC1005X40N
pins: 1, 2

## RC0402JR-07560RL
designator R?
Resistor; Manufacturer_Name: KEMET; Manufacturer_Part_Number: RC0402JR-07560RL; Datasheet Link: http://www.yageo.com/documents/recent/PYu-RC0402_51_RoHS_L_6_r.pdf; Height: 0.4mm; Mouser Part Number: 603-RC0402JR-07560RL; Mouser Price/Stock: https://www.mouser.com/Search/Refine.aspx?Keyword=603-RC0402JR-07560RL
footprint RESC1005X40N
pins: 1, 2

## RC0603FR-0716K2L
designator R?
Resistor; Manufacturer_Name: KEMET; Manufacturer_Part_Number: RC0603FR-0716K2L; Datasheet Link: http://www.yageo.com/documents/recent/PYu-RC0603_51_RoHS_L_v5.pdf; Height: 0.55mm; Mouser Part Number: 603-RC0603FR-0716K2L; Mouser Price/Stock: https://www.mouser.co.uk/ProductDetail/Yageo/RC0603FR-0716K2L?qs=VU8sRB4EgwBbyU4POY2x9w%3D%3D
footprint RESC1608X55N
pins: 1, 2

## RMCF0402ZT0R00
designator R?
Resistor; Manufacturer_Name: Stackpole Electronics; Manufacturer_Part_Number: RMCF0402ZT0R00; Datasheet Link: https://cs.seielect.com/catalog/SEI-RMCF_RMCP.pdf; Height: 0.4mm; Mouser Part Number: 708-RMCF0402ZT0R00; Mouser Price/Stock: https://www.mouser.co.uk/ProductDetail/SEI-Stackpole/RMCF0402ZT0R00?qs=FESYatJ8odLDmzPDteia4A%3D%3D; Arrow Part Number: RMCF0402ZT0R00; Arrow Price/Stock: https://www.arrow.com/en/products/rmcf0402zt0r00/stackpole-electronics?region=nac
footprint RESC1005X40N
pins: 1, 2

## RN73C1J324KBTDF
designator R?
Resistor; Manufacturer_Name: TE Connectivity; Manufacturer_Part_Number: RN73C1J324KBTDF; Datasheet Link: https://componentsearchengine.com/Datasheets/2/RN73C1J324KBTDF.pdf; Height: 0.55mm; Mouser Part Number: 279-RN73C1J324KBTDF; Mouser Price/Stock: https://www.mouser.co.uk/ProductDetail/TE-Connectivity-Holsworthy/RN73C1J324KBTDF?qs=8G8kQhBkhGjA96pes7zqwA%3D%3D
footprint RESC1608X55N
pins: 1, 2

## RV2C010UNT2L
designator Q?
N-Channel MOSFET, 20V, 1A, 470mOhm, 400mW; Manufacturer: Rohm Semiconductor; Part number IPS: 00000009976; Note: N.A.; Artikkelnr Noca: 35010020; Pad Count: 3; Part Number: RV2C010UNT2L; Manufacturer Part Number: RV2C010UNT2L; ComponentLink1URL: N.A.; ComponentLink1Description: Datasheet; ComponentLink2URL: N.A.; ComponentLink2Description: Supplier link; HelpURL: http://rohmfs.rohm.com/en/products/databook/datasheet/discrete/transistor/mosfet/rv2c010unt2l-e.pdf; Footprint Doc: DFN-3; LatestRevisionDate: 2016-08-09; Published: 2016-08-09; Value: RV2C010UNT2L; Supplier 1: Digi-Key; Supplier Part Number 1: RV2C010UNT2LCT-ND; Supplier 2: Mouser; Supplier Part Number 2: 755-RV2C010UNT2L; PartId: 101300132; Component Class: Semiconductors; Author: rsk; Part number Norautron: N.A.
footprint DFN65P100X40-3L
pins: 1 G, 2 S, 3 D

## SFH_4043
designator LED?
LED; Manufacturer_Name: ams OSRAM; Datasheet Link: https://componentsearchengine.com/Datasheets/1/SFH 4043.pdf; Height: 0.55mm; Manufacturer_Part_Number: SFH 4043; Mouser Part Number: 720-SFH4043; Mouser Price/Stock: https://www.mouser.co.uk/ProductDetail/ams-OSRAM/SFH-4043?qs=9EKcitwk7VSr%252BjkSq3N7vg%3D%3D; Arrow Part Number: SFH 4043; Arrow Price/Stock: https://www.arrow.com/en/products/sfh4043/osram-opto-semiconductors?region=europe
footprint LEDC1005X55N
pins: 1 K, 1 C, 2 A, 2 A
text: ESD

## SFH_7015
designator LED?
LED; Manufacturer_Name: ams OSRAM; Datasheet Link: https://www.osram.com/ecat/CHIPLED%C2%AE%20SFH%207015/com/en/class_pim_web_catalog_103489/global/prd_pim_device_6573079/; Height: 0.7mm; Manufacturer_Part_Number: SFH 7015; Mouser Part Number: 720-SFH7015; Mouser Price/Stock: https://www.mouser.co.uk/ProductDetail/OSRAM-Opto-Semiconductors/SFH-7015?qs=OTrKUuiFdkbk%2F%252BQNXT%2FkUA%3D%3D; Arrow Part Number: SFH 7015; Arrow Price/Stock: https://www.arrow.com/en/products/sfh-7015/osram-opto-semiconductors?region=nac
footprint SFH7015
pins: 1 NC, 2 CATHODE_EMITTER_1_(655_NM), 3 A, 4 CATHODE_EMITTER_2_(940_NM)

## SiT1532AC-J5-DCC-32.768E
designator Y?
Crystal or Oscillator; Manufacturer_Name: SiTime; Manufacturer_Part_Number: SiT1532AC-J5-DCC-32.768E; Datasheet Link: https://www.sitime.com/support/resource-library/datasheets/sit1532-datasheet; Height: 0.6mm; Mouser Part Number: 788-1532ACJ5DCC32.7E; Mouser Price/Stock: https://www.mouser.co.uk/ProductDetail/SiTime/SiT1532AC-J5-DCC-32768E?qs=dMZC7um9hO%252BBGGNkRGdGlw%3D%3D; Arrow Part Number: SIT1532AC-J5-DCC-32.768E; Arrow Price/Stock: https://www.arrow.com/en/products/sit1532ac-j5-dcc-32.768e/sitime?region=nac
footprint SiT1532ACJ5DCC32768E
pins: 1 GND_1, 2 CLK_OUT, 3 VDD, 4 GND_2

## SJ2-3574A-SMT-TR
designator J?
Connector; Manufacturer_Name: CUI Devices; Manufacturer_Part_Number: SJ2-3574A-SMT-TR; Datasheet Link: https://componentsearchengine.com/Datasheets/1/SJ2-3574A-SMT-TR.pdf; Height: 5mm; Mouser Part Number: 490-SJ2-3574A-SMT-TR; Mouser Price/Stock: https://www.mouser.co.uk/ProductDetail/CUI-Devices/SJ2-3574A-SMT-TR?qs=DXv0QSHKF4zeQKpjIMxQnA%3D%3D; Arrow Part Number: SJ2-3574A-SMT-TR; Arrow Price/Stock: https://www.arrow.com/en/products/sj2-3574a-smt-tr/cui-devices?region=nac
footprint SJ23574ASMTTR
pins: 1 "SLEEVE", 2 "TIP", 3 "RING", 4 "N.P."

## SJ-3523-SMT-TR
designator J?
Connector; Manufacturer_Name: CUI Devices; Manufacturer_Part_Number: SJ-3523-SMT-TR; Datasheet Link: https://www.mouser.de/datasheet/2/670/sj_352x_smt-1779397.pdf; Height: 5.2mm; Mouser Part Number: 490-SJ-3523-SMT-TR; Mouser Price/Stock: https://www.mouser.co.uk/ProductDetail/CUI-Devices/SJ-3523-SMT-TR?qs=WyjlAZoYn51zOHzJ3r4ZRA%3D%3D; Arrow Part Number: SJ-3523-SMT-TR; Arrow Price/Stock: https://www.arrow.com/en/products/sj-3523-smt-tr/cui-devices?region=europe
footprint SJ3523SMTTR
pins: 1 "SLEEVE", 2 "TIP", 3 "RING"

## SJ-3524-SMT-TR
designator J?
Connector; Manufacturer_Name: CUI Devices; Manufacturer_Part_Number: SJ-3524-SMT-TR; Datasheet Link: https://datasheet.datasheetarchive.com/originals/distributors/Datasheets-DGA1/151896.pdf; Mouser Part Number: 490-SJ-3524-SMT-TR; Mouser Price/Stock: https://www.mouser.co.uk/ProductDetail/CUI-Devices/SJ-3524-SMT-TR?qs=WyjlAZoYn50%252B7OcNbxvx%252BA%3D%3D; Arrow Part Number: SJ-3524-SMT-TR; Arrow Price/Stock: https://www.arrow.com/en/products/sj-3524-smt-tr/cui-devices?region=nac
footprint SJ-3524-SMT-TR
pins: 1 "SLEEVE", 2 "TIP", 3 "RING", 4 "N.P."

## SMTU2032-LF
designator U?
Batt Holder CR2032 SMD; Manufacturer_Name: RENATA; Manufacturer_Part_Number: SMTU2032-LF; Datasheet Link: https://componentsearchengine.com/Datasheets/1/SMTU2032-LF.pdf; Height: 5mm; Mouser Part Number: 614-SMTU2032-LF; Mouser Price/Stock: https://www.mouser.co.uk/ProductDetail/Renata/SMTU2032-LF?qs=r1PAtlylphCLeXbokB9Tog%3D%3D
footprint SMTU2032LF
pins: 1, 2
text: +

## Solderbridge
designator SB?  (value not drawn)  (no BOM)
Manufacturer: N.A.; Pad Count: 2; Part Number: Solderbridge; Manufacturer Part Number: N.A.; LatestRevisionDate: 2009-12-14; Pin Count: 2; Publisher: Nordic Semiconductor; Published: 2009-12-14; Value: Solderbridge; Note: N.A.; Artikkelnr Noca: N.A.; Footprint Doc: Solderbridge; Part number IPS: N.A.; ComponentLink1URL: N.A.; ComponentLink1Description: Datasheet; ComponentLink2URL: N.A.; ComponentLink2Description: Supplier link; HelpURL: N.A.; Supplier 1: N.A.; Supplier Part Number 1: N.A.; Supplier 2: N.A.; Supplier Part Number 2: N.A.; Author: rsk; Component Class: Connectors; PartId: 100500458; Part number Norautron: N.A.
footprint Solderbridge
pins: 1 0, 2 1

## Solderbridge Shorted
designator SB?, comment Solderbridge  (value not drawn)  (net tie, no BOM)
Shorted Solderbridge; Part Number: Solderbridge Shorted; Manufacturer: N.A.; Pad Count: 2; Manufacturer Part Number: N.A.; LatestRevisionDate: 2012-08-07; Pin Count: 2; Publisher: Nordic Semiconductor; Published: 2012-08-07; Value: Solderbridge; Note: N.A.; Artikkelnr Noca: N.A.; Footprint Doc: Solderbridge_Shorted; Part number IPS: N.A.; ComponentLink1URL: N.A.; ComponentLink1Description: Datasheet; ComponentLink2URL: N.A.; ComponentLink2Description: Supplier link; HelpURL: N.A.; Supplier 1: N.A.; Supplier Part Number 1: N.A.; Supplier 2: N.A.; Supplier Part Number 2: N.A.; Author: rsk; Component Class: Connectors; PartId: 100500459; Part number Norautron: N.A.
footprint Solderbridge_Shorted
pins: 1 0, 2 1

## TL1017AABF160QG
designator S?
Switch; Manufacturer_Name: E-Switch; Manufacturer_Part_Number: TL1017AABF160QG; Datasheet Link: https://www.e-switch.com/wp-content/uploads/2023/03/TL1017.pdf; Height: 1.7mm; Mouser Part Number: 612-TL1017AABF160QG; Mouser Price/Stock: https://www.mouser.co.uk/ProductDetail/E-Switch/TL1017AABF160QG?qs=9vOqFld9vZWEDSBQD0ZM5A%3D%3D
footprint TL1017AABF160QG
pins: 1 N.O, 2 COM

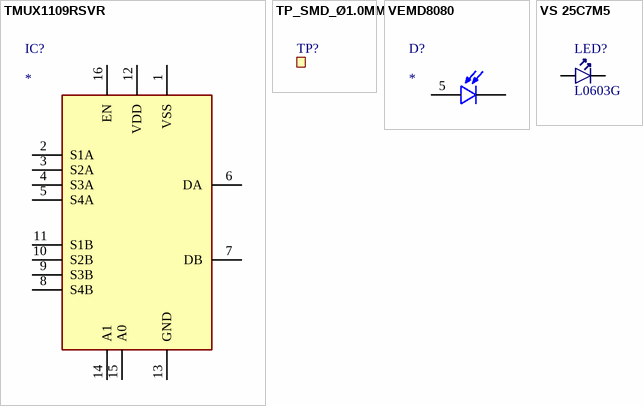
[diagram p2: symbols TMUX1109RSVR to VS 25C7M5]

## TMUX1109RSVR
designator IC?
Integrated Circuit; Manufacturer_Name: Texas Components; Manufacturer_Part_Number: TMUX1109RSVR; Datasheet Link: https://www.ti.com/lit/ds/symlink/tmux1109.pdf?ts=1635353641443&ref_url=https%253A%252F%252Fwww.ti.com%252Fswitches-multiplexers%252Fanalog%252Fproducts.html; Height: 0.55mm
footprint TMUX1109RSVR
pins: 1 VSS, 2 S1A, 3 S2A, 4 S3A, 5 S4A, 6 DA, 7 DB, 8 S4B, 9 S3B, 10 S2B, 11 S1B, 12 VDD, 13 GND, 14 A1, 15 A0, 16 EN

## TP_SMD_Ø1.0MM
designator TP?, comment Ø1.0mm,SMD  (value not drawn)  (no BOM)
1.0mm circular SMD testpad; Part Number: TP_SMD_Ø1.0MM; Manufacturer: Nordic Semiconductor; Manufacturer Part Number: N.A.; Pad Count: 1; LatestRevisionDate: 2021-03-05; Pin Count: 1; Publisher: Nordic Semiconductor; Published: 2013-06-11; Value: Ø1.0mm,SMD; Note: N.A.; Artikkelnr Noca: N.A.; Footprint Doc: TP_SMD_Ø1.0mm; Part number IPS: N.A.; ComponentLink1URL: N.A.; ComponentLink1Description: Datasheet; ComponentLink2URL: N.A.; ComponentLink2Description: Supplier link; HelpURL: N.A.; Supplier 1: N.A.; Supplier Part Number 1: N.A.; Supplier 2: N.A.; Supplier Part Number 2: N.A.; Author: rsk; Component Class: Connectors; PartId: 100500475; Part number Norautron: N.A.
footprint TP_SMD_D1.0mm
pins: 1

## VEMD8080
designator D?
Diode; Manufacturer_Name: Vishay; Manufacturer_Part_Number: VEMD8080; Datasheet Link: https://www.vishay.com/docs/84565/vemd8080.pdf; Height: 0.53mm; Mouser Part Number: 78-VEMD8080; Mouser Price/Stock: https://www.mouser.co.uk/ProductDetail/Vishay-Semiconductors/VEMD8080?qs=F5EMLAvA7IBCchs2bw9l%2Fw%3D%3D; Arrow Part Number: VEMD8080; Arrow Price/Stock: https://www.arrow.com/en/products/vemd8080/vishay?region=nac
footprint VEMD8080
pins: 1 C, 2 C, 3 C, 4 C, 5 A, 6 C, 7 C, 8 C

## VS 25C7M5
designator LED?, comment L0603G
LED, Green, 0603, 573nm, Vf=2.0V, 24mcd, - 40 to +85°C; Part Number: VS 25C7M5; Manufacturer: Victory Electronics; Part number IPS: 00000001274, 00000009961; Note: N.A.; Artikkelnr Noca: 13019193; Pad Count: 2; Manufacturer Part Number: VS 25C7M5; Footprint Doc: 0603; LatestRevisionDate: 2020-10-23; Published: 2017-08-21; Value: L0603G; ComponentLink1URL: N.A.; ComponentLink1Description: Datasheet; ComponentLink2URL: N.A.; ComponentLink2Description: Supplier link; HelpURL: \\hizz\pro\app9717\Datasheet\optoelectronics\Victory Electronics\VS 25C7M5.pdf; Supplier 1: EC Partner; Supplier Part Number 1: N.A.; Supplier 2: N.A.; Supplier Part Number 2: N.A.; PartId: 101400097; Component Class: Optoelectronics; Author: rsk; Part number Norautron: N.A.
footprint LED_0603_G
pins: 1 C, 2 A